# EAGLE library part CC1190 (library pel_misc)
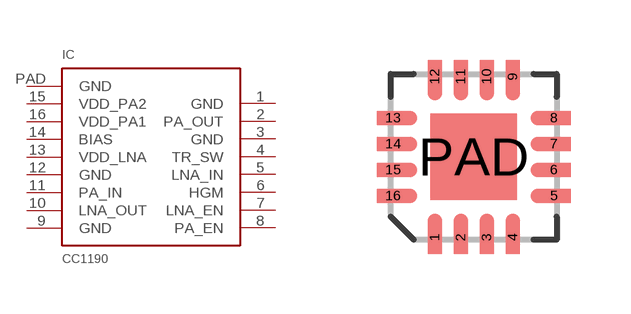
[diagram p3: symbol with the pads of PVQFN-16; footprint PVQFN-16]

Designator prefix IC

## CC1190  [PVQFN-16]
1  GND
2  PA_OUT
3  GND
4  TR_SW
5  LNA_IN
6  HGM
7  LNA_EN
8  PA_EN
9  GND
10  LNA_OUT
11  PA_IN
12  GND
13  VDD_LNA
14  BIAS
15  VDD_PA2
16  VDD_PA1
PAD  GND

## Footprint PVQFN-16 (pad centres in mm)
smd 0.35 x 0.825: 1 -0.975,-2.013; 2 -0.325,-2.013; 3 0.325,-2.013; 4 0.975,-2.013; 9 0.975,2.013; 10 0.325,2.013; 11 -0.325,2.013; 12 -0.975,2.013
smd 0.825 x 0.35: 5 2.013,-0.975; 6 2.013,-0.325; 7 2.013,0.325; 8 2.013,0.975; 13 -2.013,0.975; 14 -2.013,0.325; 15 -2.013,-0.325; 16 -2.013,-0.975
smd 2.16 x 2.16: PAD 0,0